# Altium schematic symbol library SCH - DRIVER - LED - TI LM3549_RTW_24.SchLib: 1 symbol
Pins are listed as number, name and electrical type; pins without a type are passive.

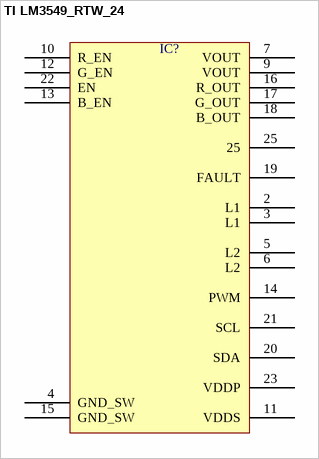
[diagram p0: symbol TI LM3549_RTW_24]

## TI LM3549_RTW_24
designator IC?  (value not drawn)
pins: 2 L1, 3 L1, 4 GND_SW, 5 L2, 6 L2, 7 VOUT, 9 VOUT, 10 R_EN, 11 VDDS, 12 G_EN, 13 B_EN, 14 PWM, 15 GND_SW, 16 R_OUT, 17 G_OUT, 18 B_OUT, 19 FAULT, 20 SDA, 21 SCL, 22 EN, 23 VDDP, 25